# EAGLE library part ADC,SERIAL#1 (library QuantumOptics)
ADC, serial with busy, no ref, such as AD7896.
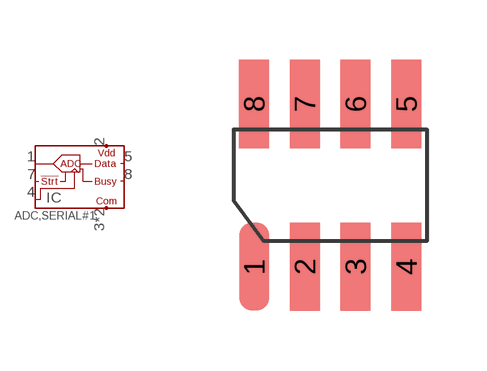
[diagram p198: symbol with the pads of SOIC-8; footprint SOIC-8]

Designator prefix IC

## ADC,SERIAL#1-SOIC8  [SOIC-8]
1  VIN  in
2  VDD
3  COM
4  SCLK  in
5  SDATA  out
6  COM
7  !CONVST  in
8  BUSY  out

## Footprint SOIC-8 (pad centres in mm)
SOIC-8 (AKA SO-8), pads on 0.050" grid.
smd 0.75 x 2.2: 1 -1.905,-2.032; 2 -0.635,-2.032; 3 0.635,-2.032; 4 1.905,-2.032; 5 1.905,2.032; 6 0.635,2.032; 7 -0.635,2.032; 8 -1.905,2.032